# EAGLE library part 691135710008 (library WR-TBL Wire Protector)
WR-TBL Serie 1357- 5.00 mm Horizontal Cable Entry w. Pressure Clamp KIND PROPERTIES Pitch 5 mm MATERIAL PROPERTIES Insulator Material PC Insulator Flammability Rating UL94 V-0 Insulator Color Grey Contact Material Copper Alloy Contact Plating Nickel over Tin Terminal Screw Material Steel Terminal Screw Plating Zinc Wire Guard Material Copper Alloy GENERAL INFORMATION Operating Temperature -30 up to +120 °C Compliance Lead free / RoHS ELECTRICAL PROPERTIES IR UL 14 A IR VDE 13.5 A Working Voltage [UL] 300 V (AC) Working Voltage [VDE] 250 V (AC) Withstanding Voltage [UL] 1600 V (AC) Withstanding Voltage [cULus] 2000 V (AC) Withstanding Voltage [VDE] 2000 V (AC) Contact Resistance 20 mΩ Contact Resistance [UL] 20 mΩ Contact Resistance [VDE] 20 mΩ MECHANICAL PROPERTIES Wire Strip Length 6 (mm) Screw M2.5 Solid Wire Section (AWG) 30 to 14 (AWG) Solid Wire Section (Metric) 0.05 to 2.08 (mm²) Stranded Wire Section (AWG) 30 to 14 (AWG) Stranded Wire Section (Metric) 0.05 to 2.08 (mm²) CERTIFICATION UL Approval E150931 CAT N: CZI (2) VDE Approval 40021362 VDE Approval 40021362 TYPE: CZI PACKAGING PROPERTIES Packaging Box <https://katalog.we-online.com/media/images/v2/o32801v209%20Family_WR-TBL1_Series1357.jpg> Details see: https://katalog.we-online.com/en/em/TBL_5_00_1357_HORIZONTAL_ENTRY_W_PRESSURE_CLAMP_69113571000x Updated by Ella Wu 2019-11-08 2019(C) Wurth Elektronik
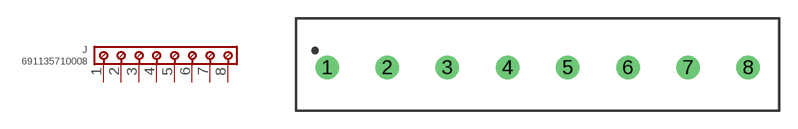
[diagram p10: symbol with the pads of 691135710008; footprint 691135710008]

Designator prefix J

## 691135710008 (DATASHEET-URL: https://www.we-online.com/catalog/datasheet/691135710008.pdf; IR-UL: 14A; IR-VDE: 13.5A; MOUNT: THT; PART-NUMBER: 691135710008; PINS: 8; PITCH: 5mm; TYPE: Horizontal; VALUE: 691135710008; WIRE: 30 to 14 (AWG) 0.05 to 2.08 (mm²); WORKING-VOLTAGE-UL: 300V(AC); WORKING-VOLTAGE-VDE: 250V(AC))  [691135710008]
1  1  pas
2  2  pas
3  3  pas
4  4  pas
5  5  pas
6  6  pas
7  7  pas
8  8  pas

## Footprint 691135710008 (pad centres in mm)
WR-TBL Serie 1357- 5.00 mm Horizontal Cable Entry w. Pressure Clamp Max Height = 10mm , Pitch 5mm , 8 Pins
drill 1.3: 1 -17.5,0; 2 -12.5,0; 3 -7.5,0; 4 -2.5,0; 5 2.5,0; 6 7.5,0; 7 12.5,0; 8 17.5,0